# Altium footprint library 0805RES.PcbLib: 1 footprints
Each footprint in its own frame and in the unit in brackets; x right, y up, seen from the top. Pads: shape width x height; smd on the part's side, far side on the other; paste and mask are expansions set on the pad; w line width, h text height; cw(c..) or ccw(c..) is an arc to the next point about the centre after c.
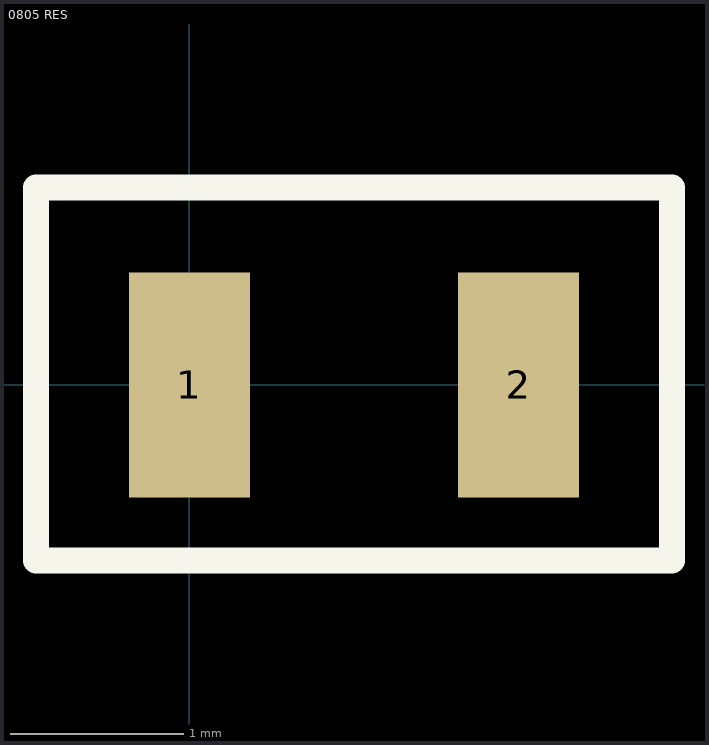
[diagram p0: the footprint, top view; thin cyan lines are the x and y axes]

## 0805 RES [mm]
pads (2):
  rect 0.7x1.3 smd: 1(0,0) 2(1.905,0)
Top Overlay:
  lines w0.15: -0.889,-1.016 -0.889,1.143 -0.635,1.143 2.794,1.143 2.794,-1.016 -0.889,-1.016
3D body "User Library-CR2012-0805.step": height 0.6, standoff 0, extent 0.016,-0.625 2.016,0.625